# Altium footprint library ECE453_Power.PcbLib: 4 footprints
Each footprint in its own frame and in the unit in brackets; x right, y up, seen from the top. Pads: shape width x height; smd on the part's side, far side on the other; paste and mask are expansions set on the pad; w line width, h text height; cw(c..) or ccw(c..) is an arc to the next point about the centre after c.
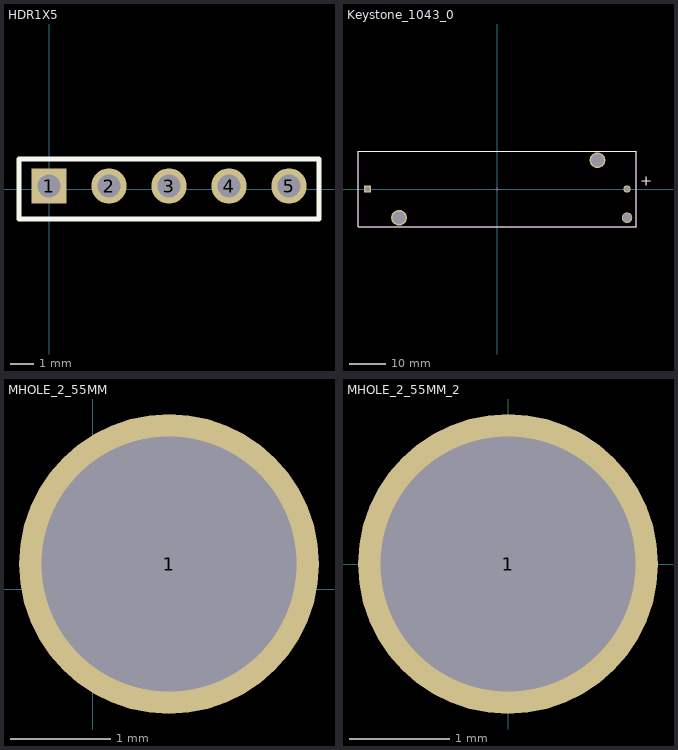
[diagram p0: the footprints below, top view; thin cyan lines are the x and y axes]

## HDR1X5 [mil] "Connector; Header; 5 Position"
height 104.33
pads (5):
  rect 59.06x59.06 hole 39: 1(0,5)
  round 59.06 hole 39: 2(100,5) 3(200,5) 4(300,5) 5(400,5)
Top Overlay:
  lines w7.87: 400,-50 -50,-50 -50,50 400,50
  lines w8: 400,-50 450,-50 450,50 400,50
3D body "PREC005SAAN-RC.STEP": height 329.92, standoff -120.08, extent -50,-50 450,50

## Keystone_1043_0 [mil]
height 104.33
pads (5):
  rect 79.53x79.53 hole 52 paste-39370.1 mask+0: 1(-1422.5,0)
  round 79.53 hole 52 paste-39370.1 mask+0: 2(1422.5,0)
  round 175 hole 140 unplated paste-39370.1 mask+0: ""(-1076.5,-315) ""(1098.5,315)
  round 115 hole 94 unplated paste-39370.1 mask+0: ""(1422.5,-315)
Top Overlay:
  lines w7.87: -1522,-411.5 -1522,411.5 1522,411.5 1522,-411.5 -1522,-411.5
  text "+" at 1564.96,0 h196.85
Mechanical 10:
  lines w7.87: -1525.94,-415.44 -1525.94,415.44 1525.94,415.44 1525.94,-415.44 -1525.94,-415.44
  text ".Designator" at 0,0 h39.37
Mechanical 12:
  lines w5.91: -1522,-411.5 -1522,411.5 1522,411.5 1522,-411.5 -1522,-411.5
Mechanical 15:
  lines w3.94: -19.68,0 19.68,0 ; 0,-19.68 0,19.68
  lines w7.87: -1525.94,-415.44 -1525.94,415.44 1525.94,415.44 1525.94,-415.44 -1525.94,-415.44
3D body "Batt_Keystone_1043_eec.STEP": height 10, standoff 0, extent -1525.94,-415.44 1525.94,415.44

## MHOLE_2_55MM [mm]
height 2.65
pads (1):
  round 3 / inner round 4.572 / far side round 4.318 hole 2.55: 1(0.762,0.254)

## MHOLE_2_55MM_2 [mm]
pads (1):
  round 3 / inner round 4.572 / far side round 4.318 hole 2.55: 1(0,0)